# Altium schematic symbol library RadioProjectSchLib.SchLib: 43 symbols
Pins are listed as number, name and electrical type; pins without a type are passive.

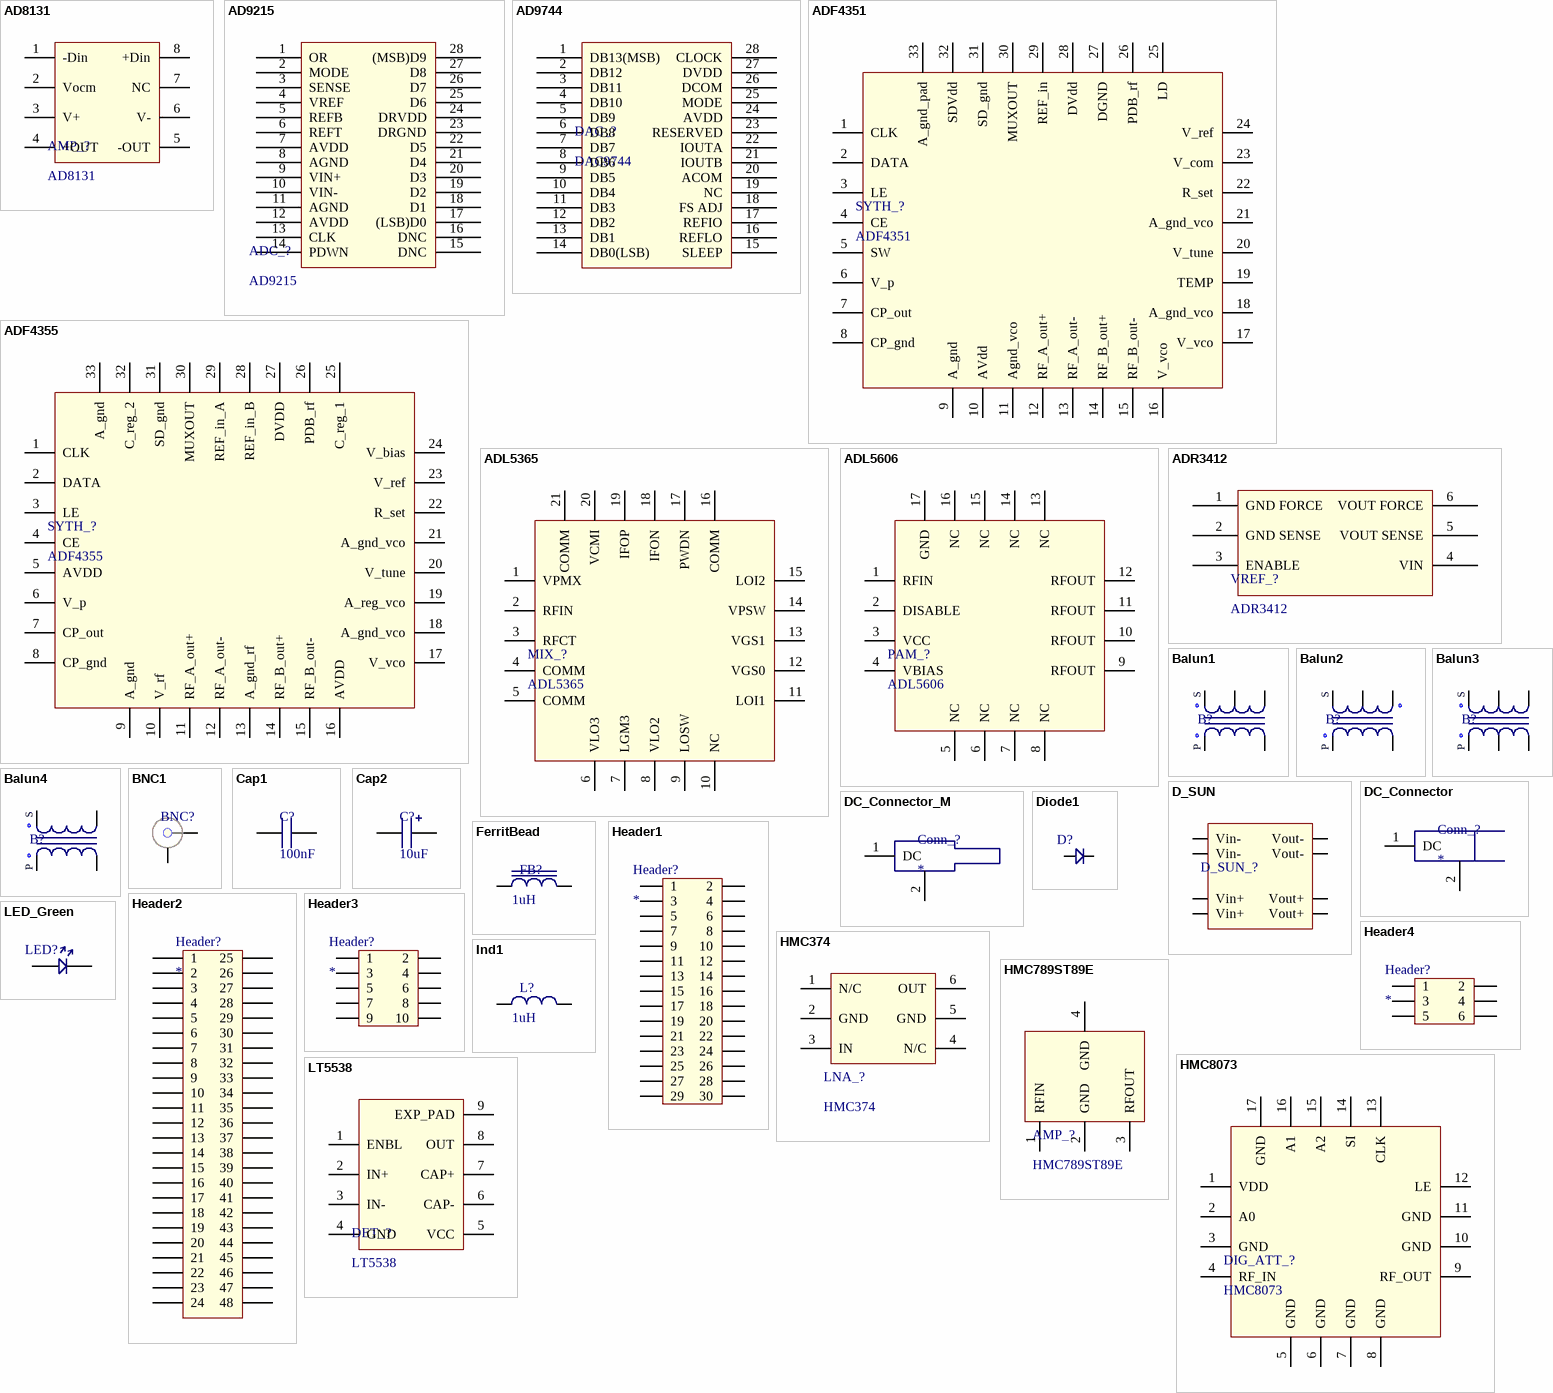
[diagram p0: symbols AD8131 to LT5538]

## AD8131
designator AMP_?
High Speed Differential Driver; Manufacturer: Analog Devices; Order Code: AD8131AR; Package Description: 8-Lead SSOP (SOIC_N); PartNumber: AD8131
pins: 1 -Din, 2 Vocm, 3 V+, 4 +OUT, 5 -OUT, 6 V-, 7 NC, 8 +Din
2 alternate drawings of the same symbol

## AD9215
designator ADC_?
Analog Digital Converter; Manufacturer: Analog Devices; OrderCode: AD9215BRUZ-80; PartNumber: AD9215; FootPrint: RU-28
footprint AD9215 (TSSOP-28)
pins: 1 OR, 2 MODE, 3 SENSE, 4 VREF, 5 REFB, 6 REFT, 7 AVDD, 8 AGND, 9 VIN+, 10 VIN-, 11 AGND, 12 AVDD, 13 CLK, 14 PDWN, 15 DNC, 16 DNC, 17 (LSB)D0, 18 D1, 19 D2, 20 D3, 21 D4, 22 D5, 23 DRGND, 24 DRVDD, 25 D6, 26 D7, 27 D8, 28 (MSB)D9

## AD9744
designator DAC_?, comment DAC9744
Digital Analog Converter; Manufacturer: Analog Devices; PartNumber: AD9744; Order Code: AD9744ARZ; Package Description: 28-Lead TSSOP
footprint AD9744 (SOIC-28)
pins: 1 DB13(MSB), 2 DB12, 3 DB11, 4 DB10, 5 DB9, 6 DB8, 7 DB7, 8 DB6, 9 DB5, 10 DB4, 11 DB3, 12 DB2, 13 DB1, 14 DB0(LSB), 15 SLEEP, 16 REFLO, 17 REFIO, 18 FS ADJ, 19 NC, 20 ACOM, 21 IOUTB, 22 IOUTA, 23 RESERVED, 24 AVDD, 25 MODE, 26 DCOM, 27 DVDD, 28 CLOCK
2 alternate drawings of the same symbol

## ADF4351
designator SYTH_?
Sythesizer with integrated VCO; Manufacturer: Analog Devices; Order Code: ADF4351-BCPZ; Package Description: 32-Lead Lead Frame Chip Scale Package; PartNumber: ADF4351
footprint LFCSP-32 (32 Pad + Exposed pad gnd)
pins: 1 CLK, 2 DATA, 3 LE, 4 CE, 5 SW, 6 V_p, 7 CP_out, 8 CP_gnd, 9 A_gnd, 10 AVdd, 11 Agnd_vco, 12 RF_A_out+, 13 RF_A_out-, 14 RF_B_out+, 15 RF_B_out-, 16 V_vco, 17 V_vco, 18 A_gnd_vco, 19 TEMP, 20 V_tune, 21 A_gnd_vco, 22 R_set, 23 V_com, 24 V_ref, 25 LD, 26 PDB_rf, 27 DGND, 28 DVdd, 29 REF_in, 30 MUXOUT, 31 SD_gnd, 32 SDVdd, 33 A_gnd_pad
2 alternate drawings of the same symbol

## ADF4355
designator SYTH_?
Sythesizer with integrated VCO; Manufacturer: Analog Devices; Order Code: ADF4355-2BCPZ; Package Description: 32-Lead Lead Frame Chip Sccale Package; PartNumber: ADF4355
pins: 1 CLK, 2 DATA, 3 LE, 4 CE, 5 AVDD, 6 V_p, 7 CP_out, 8 CP_gnd, 9 A_gnd, 10 V_rf, 11 RF_A_out+, 12 RF_A_out-, 13 A_gnd_rf, 14 RF_B_out+, 15 RF_B_out-, 16 AVDD, 17 V_vco, 18 A_gnd_vco, 19 A_reg_vco, 20 V_tune, 21 A_gnd_vco, 22 R_set, 23 V_ref, 24 V_bias, 25 C_reg_1, 26 PDB_rf, 27 DVDD, 28 REF_in_B, 29 REF_in_A, 30 MUXOUT, 31 SD_gnd, 32 C_reg_2, 33 A_gnd
2 alternate drawings of the same symbol

## ADL5365
designator MIX_?
RF Mixer; Manufacturer: Analog Devices; Order Code: ADL5365ACPZ-R7; Package Description: 20-Lead LFCSP_WQ; PartNumber: ADL5365
pins: 1 VPMX, 2 RFIN, 3 RFCT, 4 COMM, 5 COMM, 6 VLO3, 7 LGM3, 8 VLO2, 9 LOSW, 10 NC, 11 LOI1, 12 VGS0, 13 VGS1, 14 VPSW, 15 LOI2, 16 COMM, 17 PWDN, 18 IFON, 19 IFOP, 20 VCMI, 21 COMM
2 alternate drawings of the same symbol

## ADL5606
designator PAM_?
Power Amplifier; Manufacturer: Analog Devices; Order Code: ADL5606ACPZ-R7; Package Description: 16-Lead LFCSP; PartNumber: ADL5606
pins: 1 RFIN, 2 DISABLE, 3 VCC, 4 VBIAS, 5 NC, 6 NC, 7 NC, 8 NC, 9 RFOUT, 10 RFOUT, 11 RFOUT, 12 RFOUT, 13 NC, 14 NC, 15 NC, 16 NC, 17 GND
2 alternate drawings of the same symbol

## ADR3412
designator VREF_?
1.2 Voltage Ref Source; Manufacturer: Analog Devices; Order Code: ADR3412ARJZ-R2; Package Description: 6-Lead SOT-23; PartNumber: ADR3412
footprint ADR3412
pins: 1 GND FORCE, 2 GND SENSE, 3 ENABLE, 4 VIN, 5 VOUT SENSE, 6 VOUT FORCE
2 alternate drawings of the same symbol

## Balun1
designator B?, comment Balun  (value not drawn)
SMD Balun; MaxFrequency: 500MHz; MinFrequency: 5MHz; ImpedanceTransformation P : S: 2:1; FootPrint: SMD; Manufacturer: *; PartNumber: *
footprint Balun_Coil (SMD Transformer)
pins: 1, 2, 3, 4, 5
text: S; P

## Balun2
designator B?, comment Balun  (value not drawn)
SMD Balun; MaxFrequency: 500MHz; MinFrequency: 5MHz; ImpedanceTransformation P : S: 2:1; FootPrint: SMD; Manufacturer: *; PartNumber: *
footprint Balun_Coil (SMD Transformer)
pins: 1, 2, 3, 4, 5
text: S; P

## Balun3
designator B?, comment Balun  (value not drawn)
SMD Balun; Manufacturer: Mini Circuits; PartNumber: T16-1-KK81+; MaxFrequency: 0.3MHz; MinFrequency: 120MHz; ImpedanceTransformation P : S: 1:16; FootPrint: SMD
footprint Balun_Coil_Craft_WBC (SMD Transformer)
pins: 1, 2, 3, 4, 5, 6
text: S; P

## Balun4
designator B?, comment Balun  (value not drawn)
SMD Balun; Manufacturer: TDK; PartNumber: HHM1918A2; MaxFrequency: 2700MHz; MinFrequency: 2300MHz; ImpedanceTransformation P : S: 1:2; FootPrint: SMD
footprint BALUN_CHIP (Chip Package SMD)
pins: 1, 2, 3, 4
text: S; P

## BNC1
designator BNC?  (value not drawn)
BNC Female; Shape: Straight; Footprint: *; PartNumber: *; Manufacturer: *; OrderCode: *; Mounting: TroughHole
footprint BNC (BNC THD connector)
pins: 1, 2

## Cap1
designator C?  value 100nF  (hidden comment: *)
SMD Capacitor; Precision: 1%; MaxVolt: 16V; FootPrint: *
footprint 0805 SMD Passive (General 0805 SMD componenet footprint)
pins: 1 *, 2 *

## Cap2
designator C?  value 10uF  (hidden comment: *)
SMD Polarized Capacitor; Precision: 1%; MaxVolt: 16V; FootPrint: *
footprint ELKO_CAP (Electrolit SMD capacitor)
pins: 1 *, 2 *

## D_SUN
designator D_SUN_?  (value not drawn)
3A DC Buck Step down Adjustable Converter Module 5-28V to 3-20V; Manufacturer: elec modul 58; Vin: 5V - 28V; Distributor: e-bay; Vout: 3-20V
footprint D_SUN (Switicng Powersupply Modul)
pins: 1 Vin-, 2 Vin-, 3 Vin+, 4 Vin+, 5 Vout+, 6 Vout+, 7 Vout-, 8 Vout-

## DC_Connector
designator Conn_?
Coaxial DC connector - female; Manufacturer: *; Size: *; Vmax: *; Imax: *
footprint DC_Connector (Power Connector)
pins: 1 DC, 2 GND

## DC_Connector_M
designator Conn_?
Coaxial DC connector - male; Mateing Part: CP-037A-ND; Vmax: 30V; Imax: 5A; Manufacturer: *; Size: 2.1mm - 5.5mm; Digi Key Order Code: EP501A-ND
footprint DC_Connector (Power Connector)
pins: 1 DC, 2 GND

## Diode1
designator D?  (value not drawn)
Diode; MaxForwardCurrent: 100mA; MaxRevVoltage: 30V; Footprint: *; Manufacturer: *; Type: *; Partnumber: *; OrderCode: *
footprint SMB (SMB Diode footprint)
pins: 1 K, 2 A

## FerritBead
designator FB?, comment value 1uH  (hidden comment: Ferrit Bead)
PartNumber: FB20022-4B-RC; Precision: 10%; MaxCurent: 5A; FootPrint: THD; Digi Key Order Code: FB20022-4B-RC-ND
footprint FerritBead (THD)
pins: 1 *, 2 *

## Header1
designator Header?
29 Pin Header; PartNumber: TLW-115-01-G-D-002-RA; Manufacterer: Samtec; PinNumber: 29; Row: 2; Pitch: 2.54mm; Type: 90°
footprint Header1 (30-Pin DIL)
pins: 1, 2, 3, 4, 5, 6, 7, 8, 9, 10, 11, 12, 13, 14, 15, 16, 17, 18, 19, 20, 21, 22, 23, 24, 25, 26, 27, 28, 29, 30

## Header2
designator Header?
48 Pin Header; PinNumber: 48; Row: 2; Pitch: 2.54mm; Type: 180°; Digi Key Order Code: 3M156386-48-ND
footprint Header2 (48-Pin DIL)
pins: 1, 2, 3, 4, 5, 6, 7, 8, 9, 10, 11, 12, 13, 14, 15, 16, 17, 18, 19, 20, 21, 22, 23, 24, 25, 26, 27, 28, 29, 30, 31, 32, 33, 34, 35, 36, 37, 38, 39, 40, 41, 42, 43, 44, 45, 46, 47, 48

## Header3
designator Header?
10 pin DIL header; PinNumber: 10; Row: 2; Pitch: 2.54mm; Type: Straight
footprint Header3 (10-Pin DIL)
pins: 1, 2, 3, 4, 5, 6, 7, 8, 9, 10

## Header4
designator Header?
6pin DIL header; PinNumber: 6; Row: 2; Pitch: 2.54mm; Type: Straight
footprint Header4 (6-Pin DIL)
pins: 1, 2, 3, 4, 5, 6

## HMC374
designator LNA_?
Low Noise Amplifier; Manufacturer: Analog Devices; Package Description: SOT26; Order Code: HMC374; PartNumber: HMC374
pins: 1 N/C, 2 GND, 3 IN, 4 N/C, 5 GND, 6 OUT
2 alternate drawings of the same symbol

## HMC789ST89E
designator AMP_?
Gain Block MMIC; Manufacturer: Analog Devices; Package Description: SOT89; Order Code: HMC789ST89E; PartNumber: HMC789ST89E
pins: 1 RFIN, 2 GND, 3 RFOUT, 4 GND
2 alternate drawings of the same symbol

## HMC8073
designator DIG_ATT_?
Digital Attenuator; Manufacturer: Analog Devices; Order Code: HMC8073LP3DE; Package Description: 16-Lead LFCSP; PartNumber: HMC8073
pins: 1 VDD, 2 A0, 3 GND, 4 RF_IN, 5 GND, 6 GND, 7 GND, 8 GND, 9 RF_OUT, 10 GND, 11 GND, 12 LE, 13 CLK, 14 SI, 15 A2, 16 A1, 17 GND
2 alternate drawings of the same symbol

## Ind1
designator L?, comment value 1uH  (hidden comment: Inductor)
SMD Inductor; Precision: 10%; MaxCurent: 100mA; FootPrint: SMD
footprint THD_INDUCTOR
pins: 1 *, 2 *

## LED_Green
designator LED?  (value not drawn)
Diode; Manufacturer: LITEON; Partnumber: LTST-C171KGKT; Type: Green; OrderCode: 160-1426-1-ND; MaxForwardCurrent: 30mA; MaxRevVoltage: 5V; ForwardCurrent: 20mA; ForwardVoltage: 2V; Footprint: 0805
footprint 0805 SMD Passive (General 0805 SMD componenet footprint)
pins: 1 K, 2 A

## LT5538
designator DET_?
Detector; Manufacturer: Analog Devices; Order Code: LT5538IDD#PBF; Package Description: 8-Lead Plastic DFN; PartNumber: LT5538
pins: 1 ENBL, 2 IN+, 3 IN-, 4 GND, 5 VCC, 6 CAP-, 7 CAP+, 8 OUT, 9 EXP_PAD
2 alternate drawings of the same symbol

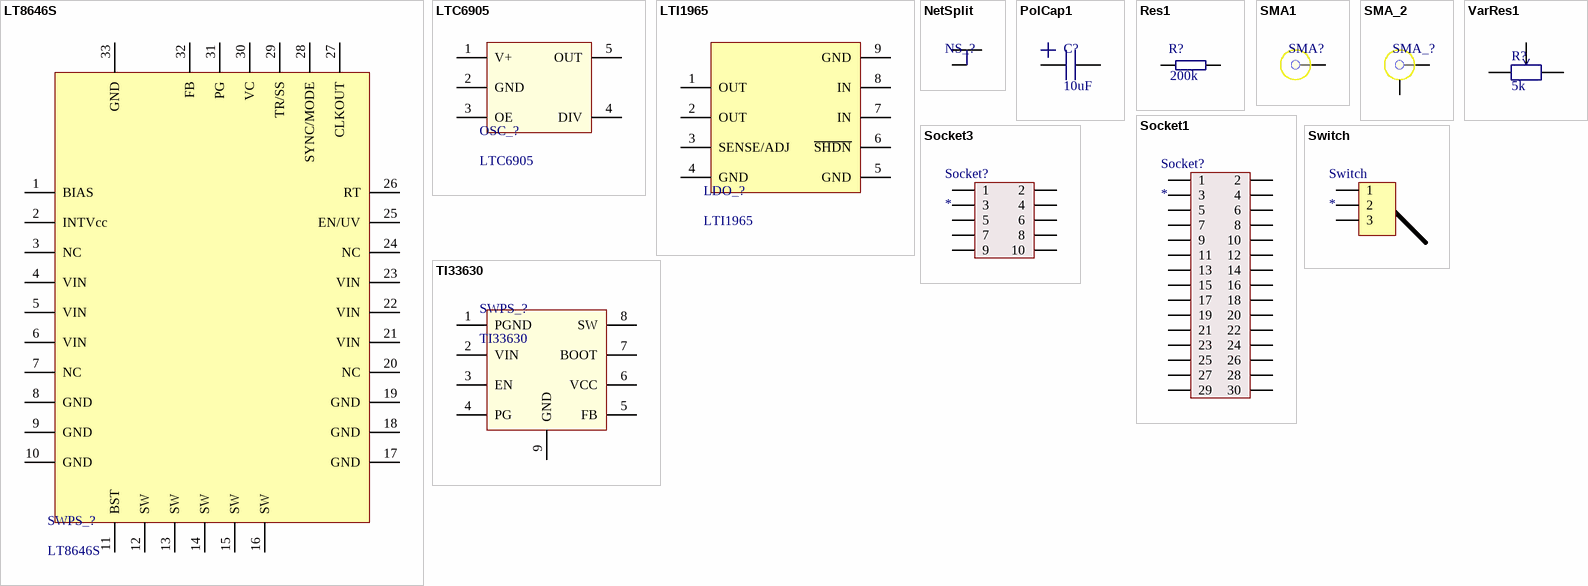
[diagram p1: symbols LT8646S to VarRes1]

## LT8646S
designator SWPS_?
Step-Down Silent Switcher Power Supply; Manufacturer: Analog Devices; Order Code: LT8646SEV#PBF; Package Description: LQFN; PartNumber: LT8646S
footprint LT8646S (LQFN-32)
pins: 1 BIAS, 2 INTVcc, 3 NC, 4 VIN, 5 VIN, 6 VIN, 7 NC, 8 GND, 9 GND, 10 GND, 11 BST, 12 SW, 13 SW, 14 SW, 15 SW, 16 SW, 17 GND, 18 GND, 19 GND, 20 NC, 21 VIN, 22 VIN, 23 VIN, 24 NC, 25 EN/UV, 26 RT, 27 CLKOUT, 28 SYNC/MODE, 29 TR/SS, 30 VC, 31 PG, 32 FB, 33 GND
2 alternate drawings of the same symbol

## LTC6905
designator OSC_?
Fixed frequency oscillator; Manufacturer: Analog Devices; Order Code: LTC6905-100; Package Description: 5-Lead Plastic TSOT-23; PartNumber: LTC6905-100
pins: 1 V+, 2 GND, 3 OE, 4 DIV, 5 OUT
2 alternate drawings of the same symbol

## LTI1965
designator LDO_?
Low Dropout Linear Regulator; Manufacturer: Analog Devices; Order Code: LT1965EDD#PBF; Package Description: 8-Lead Plastic DFN; PartNumber: LTI1965; Version: Adjustable
footprint PCBComponent_1
footprint LT1965 (MSOP-8)
pins: 1 OUT, 2 OUT, 3 SENSE/ADJ, 4 GND, 5 GND, 6 ~{SHDN}, 7 IN, 8 IN, 9 GND
2 alternate drawings of the same symbol

## NetSplit
designator NS_?  (value not drawn)  (net tie, no BOM)
Net Split 2 to 1
footprint NetSplit_2
pins: 1, 2, 3

## PolCap1
designator C?  value 10uF  (hidden comment: *)
Polarized Capacitor; Precision: 1%; MaxVolt: 16V; FootPrint: *
pins: 1 *, 2 *

## Res1
designator R?, comment value 200k  (hidden comment: Resistor)
SMD Resistor; Precision: 1%; MaxPower: 0.1W; FootPrint: SMD
footprint 0805 SMD Passive (General 0805 SMD componenet footprint)
pins: 1 *, 2 *

## SMA1
designator SMA?  (value not drawn)
SMA Female; Shape: 90°; Footprint: *; PartNumber: *; Manufacturer: *; OrderCode: *; Mounting: TroughHole
footprint SMA Flange (Flange Connector)
pins: 1

## SMA_2
designator SMA_?  (value not drawn)
SMA Female; Shape: Straight; Footprint: *; PartNumber: *; Manufacturer: *; OrderCode: *; Mounting: TroughHole
footprint SMA_Board (SMD THD connector)
pins: 1, 2

## Socket1
designator Socket?
30 Pin Socket; PartNumber: SLW-115-01-G-D; Manufacterer: Samtec; PinNumber: 30; Row: 2; Pitch: 2.54mm; Type: 180°
footprint Socket1_L (30-Pin DIL)
footprint Socket1_R (30-Pin DIL)
pins: 1, 2, 3, 4, 5, 6, 7, 8, 9, 10, 11, 12, 13, 14, 15, 16, 17, 18, 19, 20, 21, 22, 23, 24, 25, 26, 27, 28, 29, 30

## Socket3
designator Socket?
10 Pin Socket; PinNumber: 10; Row: 2; Pitch: 2.54mm; Type: 180°
footprint Socket3_L (10-Pin DIL)
pins: 1, 2, 3, 4, 5, 6, 7, 8, 9, 10

## Switch
designator Switch
3 state switch; PinNumber: 3; Pitch: 2.54mm; Type: THD 3 state; Digi Key Order Code: EG2355-ND
footprint Switch (3 position switch)
pins: 1, 2, 3

## TI33630
designator SWPS_?
Synchronous Step-Down Voltage Converter; Manufacturer: Texas Instruments; PartNumber: LMR33630; Order Code: LMR33630CDDAR; Package Description: DDA
footprint PowerPAD-SOIC (SOIC-8)
pins: 1 PGND, 2 VIN, 3 EN, 4 PG, 5 FB, 6 VCC, 7 BOOT, 8 SW, 9 GND
2 alternate drawings of the same symbol

## VarRes1
designator R?, comment value 5k  (hidden comment: VariableResistor)
SMD Variable Resistor; Precision: 1%; MaxPower: 0.1W; FootPrint: SMD; Manufacturer ID: *
footprint TC33-2 (Variable resistor)
pins: 1 *, 2 *, 3